# Altium schematic symbol library SCH - DRIVER - LED - TI LM3405AXMY.SchLib: 1 symbol
Pins are listed as number, name and electrical type; pins without a type are passive.

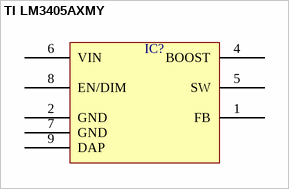
[diagram p0: symbol TI LM3405AXMY]

## TI LM3405AXMY
designator IC?  (value not drawn)
pins: 1 FB, 2 GND, 4 BOOST, 5 SW, 6 VIN, 7 GND, 8 EN/DIM, 9 DAP